# Altium footprint library BLDC.PcbLib: 51 footprints (part 4 of 4)
Each footprint in its own frame and in the unit in brackets; x right, y up, seen from the top. Pads: shape width x height; smd on the part's side, far side on the other; paste and mask are expansions set on the pad; w line width, h text height; cw(c..) or ccw(c..) is an arc to the next point about the centre after c.
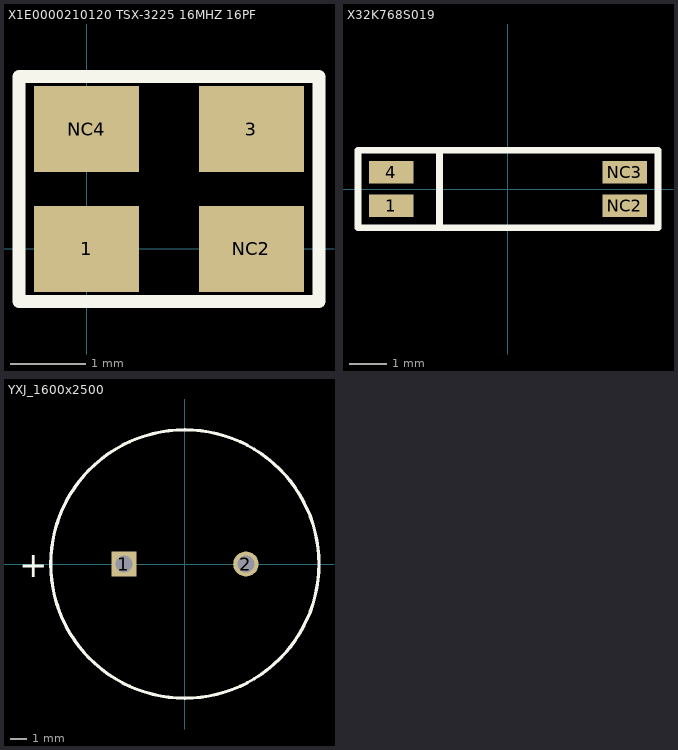
[diagram p3: the footprints below, top view; thin cyan lines are the x and y axes]

## X1E0000210120 TSX-3225 16MHZ 16PF [mm]
pads (4):
  rect 1.4x1.15 smd: 1(0,0) 3(2.2,1.6) NC2(2.2,0) NC4(0,1.6)
Top Overlay:
  lines w0.178: -0.9,-0.7 3.1,-0.7 3.1,2.3 -0.9,2.3 -0.9,-0.7
3D body: height 0.55, standoff 0, extent -0.5,-0.5 2.7,2

## X32K768S019 [mm]
pads (4):
  rect 1.2x0.6 smd: 1(-3.15,-0.45) 4(-3.15,0.45) NC2(3.15,-0.45) NC3(3.15,0.45)
Top Overlay:
  lines w0.178: -1.85,-1.05 -1.85,1.05 ; -4.05,-1.05 4.05,-1.05 4.05,1.05 -4.05,1.05 -4.05,-1.05
3D body: height 1.3, standoff -0.2, extent -3.65,-1.55 3.45,1.55

## YXJ_1600x2500 [mm] "TH, 2-Leads, Dia 16mm, Pin Spacing 7.5mm"
height 27
pads (2):
  rrect6% 1.55x1.55 hole 1.05: 1(-3.75,0)
  round 1.55 hole 1.05: 2(3.75,0)
Top Overlay:
  circle w0.2: c0,0 r8.25
  text "+" at -10.2,-0.8 h1.52
Mechanical 5:
  circle w0.1: c0,0 r8.25
  text "+" at -10.2,-0.8 h1.52
  text ".Designator" at -2,-0.7 h1.85
3D body: height 27.01, standoff -4, extent -8.25,-8.25 8.26,8.25